# Altium footprint library Footprint-Lib-JVillodres.PcbLib: 38 footprints (part 1 of 3)
Each footprint in its own frame and in the unit in brackets; x right, y up, seen from the top. Pads: shape width x height; smd on the part's side, far side on the other; paste and mask are expansions set on the pad; w line width, h text height; cw(c..) or ccw(c..) is an arc to the next point about the centre after c.
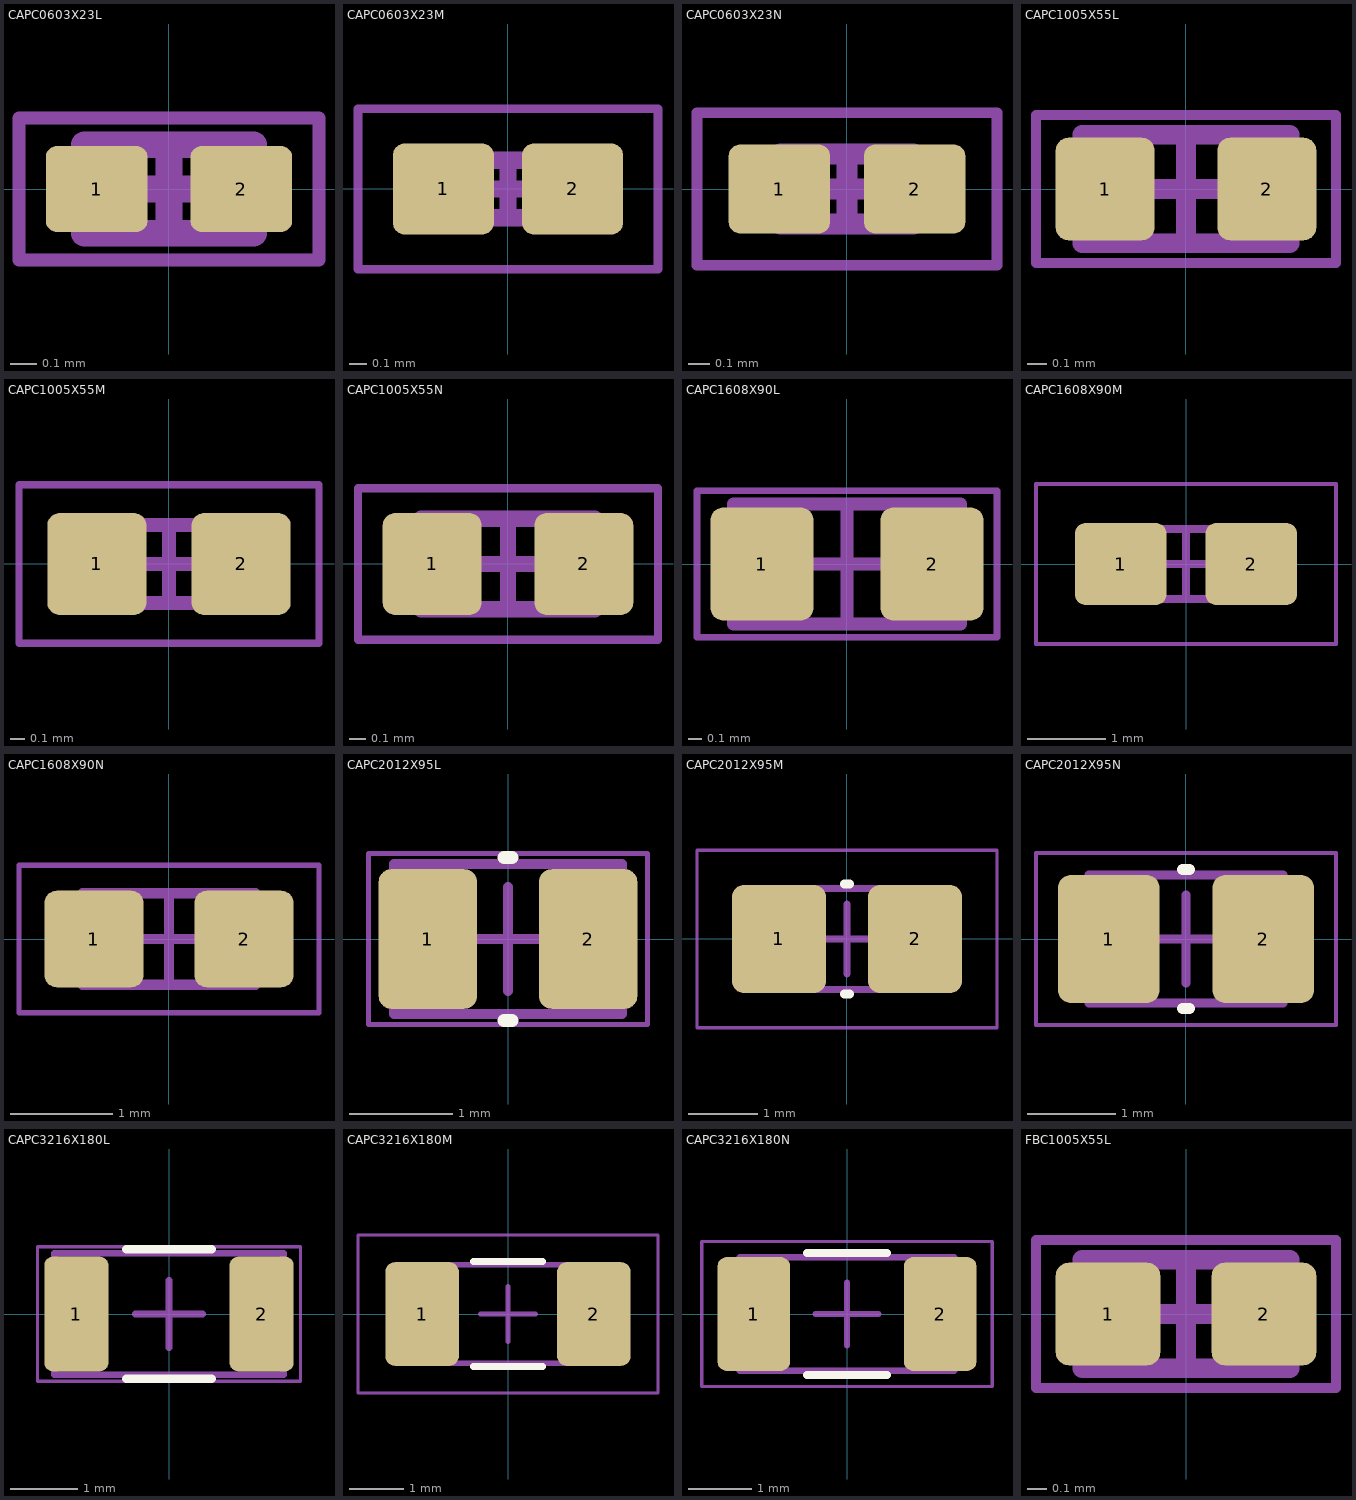
[diagram p0: the footprints below, top view; thin cyan lines are the x and y axes]

## CAPC0603X23L [mm] "Chip Capacitor, 2-Leads, Body 0,60x0,30mm, IPC High Density"
height 0.23
pads (2):
  rrect25% 0.38x0.32 smd: 1(-0.27,0) 2(0.27,0)
Top Assembly:
  lines w0.1: -0.315,-0.165 -0.315,0.165 0.315,0.165 0.315,-0.165 -0.315,-0.165
Top Designator:
  text ".Designator" at 0,0.188 h1
Top Courtyard:
  lines w0.05: -0.56,-0.265 -0.56,0.265 0.56,0.265 0.56,-0.265 -0.56,-0.265
Top Component Center:
  lines w0.1: -0.165,0 0.165,0 ; 0,-0.165 0,0.165
3D body "CAPC0603X23L.step": height 0.23, standoff 0, extent -0.3,-0.15 0.3,0.15

## CAPC0603X23M [mm] "Chip Capacitor, 2-Leads, Body 0,60x0,30mm, IPC Low Density"
height 0.23
pads (2):
  rrect25% 0.58x0.52 smd: 1(-0.37,0) 2(0.37,0)
Top Assembly:
  lines w0.1: -0.315,-0.165 0.315,-0.165 0.315,0.165 -0.315,0.165 -0.315,-0.165
Top Designator:
  text ".Designator" at 0,0.188 h1
Top Courtyard:
  lines w0.05: -0.86,-0.46 0.86,-0.46 0.86,0.46 -0.86,0.46 -0.86,-0.46
Top Component Center:
  lines w0.1: -0.165,0 0.165,0 ; 0,-0.165 0,0.165
3D body "CAPC0603X23M.step": height 0.23, standoff 0, extent -0.3,-0.15 0.3,0.15

## CAPC0603X23N [mm] "Chip Capacitor, 2-Leads, Body 0,60x0,30mm, IPC Medium Density"
height 0.23
pads (2):
  rrect25% 0.48x0.42 smd: 1(-0.32,0) 2(0.32,0)
Top Assembly:
  lines w0.1: -0.315,-0.165 -0.315,0.165 0.315,0.165 0.315,-0.165 -0.315,-0.165
Top Designator:
  text ".Designator" at 0,0.188 h1
Top Courtyard:
  lines w0.05: -0.71,-0.36 -0.71,0.36 0.71,0.36 0.71,-0.36 -0.71,-0.36
Top Component Center:
  lines w0.1: -0.165,0 0.165,0 ; 0,-0.165 0,0.165
3D body "CAPC0603X23N.step": height 0.23, standoff 0, extent -0.3,-0.15 0.3,0.15

## CAPC1005X55L [mm] "Chip Capacitor, 2-Leads, Body 1,00x0,50mm, IPC High Density"
height 0.55
pads (2):
  rrect25% 0.5x0.52 smd: 1(-0.41,0) 2(0.41,0)
Top Assembly:
  lines w0.1: -0.525,-0.275 0.525,-0.275 0.525,0.275 -0.525,0.275 -0.525,-0.275
Top Designator:
  text ".Designator" at 0,0.188 h1
Top Courtyard:
  lines w0.05: -0.76,-0.375 0.76,-0.375 0.76,0.375 -0.76,0.375 -0.76,-0.375
Top Component Center:
  lines w0.1: -0.275,0 0.275,0 ; 0,-0.275 0,0.275
3D body "CAPC1005X55L.step": height 0.55, standoff 0, extent -0.5,-0.25 0.5,0.25

## CAPC1005X55M [mm] "Chip Capacitor, 2-Leads, Body 1,00x0,50mm, IPC Low Density"
height 0.55
pads (2):
  rrect25% 0.7x0.72 smd: 1(-0.51,0) 2(0.51,0)
Top Assembly:
  lines w0.1: -0.525,-0.275 0.525,-0.275 0.525,0.275 -0.525,0.275 -0.525,-0.275
Top Designator:
  text ".Designator" at 0,0.188 h1
Top Courtyard:
  lines w0.05: -1.06,-0.56 1.06,-0.56 1.06,0.56 -1.06,0.56 -1.06,-0.56
Top Component Center:
  lines w0.1: -0.275,0 0.275,0 ; 0,-0.275 0,0.275
3D body "CAPC1005X55M.step": height 0.55, standoff 0, extent -0.5,-0.25 0.5,0.25

## CAPC1005X55N [mm] "Chip Capacitor, 2-Leads, Body 1,00x0,50mm, IPC Medium Density"
height 0.55
pads (2):
  rrect25% 0.6x0.62 smd: 1(-0.46,0) 2(0.46,0)
Top Assembly:
  lines w0.1: -0.525,-0.275 0.525,-0.275 0.525,0.275 -0.525,0.275 -0.525,-0.275
Top Designator:
  text ".Designator" at 0,0.188 h1
Top Courtyard:
  lines w0.05: -0.91,-0.46 0.91,-0.46 0.91,0.46 -0.91,0.46 -0.91,-0.46
Top Component Center:
  lines w0.1: -0.275,0 0.275,0 ; 0,-0.275 0,0.275
3D body "CAPC1005X55N.step": height 0.55, standoff 0, extent -0.5,-0.25 0.5,0.25

## CAPC1608X90L [mm] "Chip Capacitor, 2-Leads, Body 1,60x0,80mm, IPC High Density"
height 0.9
pads (2):
  rrect25% 0.775x0.85 smd: 1(-0.637,0) 2(0.638,0)
Top Assembly:
  lines w0.1: -0.85,-0.45 -0.85,0.45 0.85,0.45 0.85,-0.45 -0.85,-0.45
Top Designator:
  text ".Designator" at 0,0.188 h1
Top Courtyard:
  lines w0.05: -1.125,-0.55 -1.125,0.55 1.125,0.55 1.125,-0.55 -1.125,-0.55
Top Component Center:
  lines w0.1: -0.45,0 0.45,0 ; 0,-0.45 0,0.45
3D body "CAPC1608X90L.step": height 0.9, standoff 0, extent -0.8,-0.4 0.8,0.4

## CAPC1608X90M [mm] "Chip Capacitor, 2-Leads, Body 1,60x0,80mm, IPC Low Density"
height 0.9
pads (2):
  rrect25% 1.175x1.05 smd: 1(-0.837,0) 2(0.838,0)
Top Assembly:
  lines w0.1: -0.85,-0.45 0.85,-0.45 0.85,0.45 -0.85,0.45 -0.85,-0.45
Top Designator:
  text ".Designator" at 0,0.188 h1
Top Courtyard:
  lines w0.05: -1.925,-1.025 1.925,-1.025 1.925,1.025 -1.925,1.025 -1.925,-1.025
Top Component Center:
  lines w0.1: -0.45,0 0.45,0 ; 0,-0.45 0,0.45
3D body "CAPC1608X90M.step": height 0.9, standoff 0, extent -0.8,-0.4 0.8,0.4

## CAPC1608X90N [mm] "Chip Capacitor, 2-Leads, Body 1,60x0,80mm, IPC Medium Density"
height 0.9
pads (2):
  rrect25% 0.975x0.95 smd: 1(-0.737,0) 2(0.738,0)
Top Assembly:
  lines w0.1: -0.85,-0.45 0.85,-0.45 0.85,0.45 -0.85,0.45 -0.85,-0.45
Top Designator:
  text ".Designator" at 0,0.188 h1
Top Courtyard:
  lines w0.05: -1.475,-0.725 1.475,-0.725 1.475,0.725 -1.475,0.725 -1.475,-0.725
Top Component Center:
  lines w0.1: -0.45,0 0.45,0 ; 0,-0.45 0,0.45
3D body "CAPC1608X90N.step": height 0.9, standoff 0, extent -0.8,-0.4 0.8,0.4

## CAPC2012X95L [mm] "Chip Capacitor, 2-Leads, Body 2,00x1,25mm, IPC High Density"
height 0.95
pads (2):
  rrect25% 0.95x1.35 smd: 1(-0.775,0) 2(0.775,0)
Top Overlay:
  lines w0.127: -0.036,-0.788 0.036,-0.788 ; -0.036,0.788 0.036,0.788
Top Assembly:
  lines w0.1: -1.1,-0.725 1.1,-0.725 1.1,0.725 -1.1,0.725 -1.1,-0.725
Top Designator:
  text ".Designator" at 0,0.188 h1
Top Courtyard:
  lines w0.05: -1.35,-0.825 1.35,-0.825 1.35,0.825 -1.35,0.825 -1.35,-0.825
Top Component Center:
  lines w0.1: -0.5,0 0.5,0 ; 0,-0.5 0,0.5
3D body "CAPC2012X95L.step": height 0.95, standoff 0, extent -1,-0.625 1,0.625

## CAPC2012X95M [mm] "Chip Capacitor, 2-Leads, Body 2,00x1,25mm, IPC Low Density"
height 0.95
pads (2):
  rrect25% 1.35x1.55 smd: 1(-0.975,0) 2(0.975,0)
Top Overlay:
  lines w0.127: -0.036,-0.788 0.036,-0.788 ; -0.036,0.788 0.036,0.788
Top Assembly:
  lines w0.1: -1.1,-0.725 -1.1,0.725 1.1,0.725 1.1,-0.725 -1.1,-0.725
Top Designator:
  text ".Designator" at 0,0.188 h1
Top Courtyard:
  lines w0.05: -2.15,-1.275 -2.15,1.275 2.15,1.275 2.15,-1.275 -2.15,-1.275
Top Component Center:
  lines w0.1: -0.5,0 0.5,0 ; 0,-0.5 0,0.5
3D body "CAPC2012X95M.step": height 0.95, standoff 0, extent -1,-0.625 1,0.625

## CAPC2012X95N [mm] "Chip Capacitor, 2-Leads, Body 2,00x1,25mm, IPC Medium Density"
height 0.95
pads (2):
  rrect25% 1.15x1.45 smd: 1(-0.875,0) 2(0.875,0)
Top Overlay:
  lines w0.127: -0.036,-0.788 0.036,-0.788 ; -0.036,0.788 0.036,0.788
Top Assembly:
  lines w0.1: -1.1,-0.725 -1.1,0.725 1.1,0.725 1.1,-0.725 -1.1,-0.725
Top Designator:
  text ".Designator" at 0,0.188 h1
Top Courtyard:
  lines w0.05: -1.7,-0.975 -1.7,0.975 1.7,0.975 1.7,-0.975 -1.7,-0.975
Top Component Center:
  lines w0.1: -0.5,0 0.5,0 ; 0,-0.5 0,0.5
3D body "CAPC2012X95N.step": height 0.95, standoff 0, extent -1,-0.625 1,0.625

## CAPC3216X180L [mm] "Chip Capacitor, 2-Leads, Body 3,20x1,60mm, IPC High Density"
height 1.8
pads (2):
  rrect25% 0.95x1.7 smd: 1(-1.375,0) 2(1.375,0)
Top Overlay:
  lines w0.127: -0.637,-0.963 0.636,-0.963 ; -0.637,0.964 0.636,0.964
Top Assembly:
  lines w0.1: -1.7,-0.9 -1.7,0.9 1.7,0.9 1.7,-0.9 -1.7,-0.9
Top Designator:
  text ".Designator" at 0,0.188 h1
Top Courtyard:
  lines w0.05: -1.95,-1 -1.95,1 1.95,1 1.95,-1 -1.95,-1
Top Component Center:
  lines w0.1: -0.5,0 0.5,0 ; 0,-0.5 0,0.5
3D body "CAPC3216X180L.step": height 1.8, standoff 0, extent -1.6,-0.8 1.6,0.8

## CAPC3216X180M [mm] "Chip Capacitor, 2-Leads, Body 3,20x1,60mm, IPC Low Density"
height 1.8
pads (2):
  rrect25% 1.35x1.9 smd: 1(-1.575,0) 2(1.575,0)
Top Overlay:
  lines w0.127: -0.637,-0.963 0.636,-0.963 ; -0.637,0.964 0.636,0.964
Top Assembly:
  lines w0.1: -1.7,-0.9 1.7,-0.9 1.7,0.9 -1.7,0.9 -1.7,-0.9
Top Designator:
  text ".Designator" at 0,0.188 h1
Top Courtyard:
  lines w0.05: -2.75,-1.45 2.75,-1.45 2.75,1.45 -2.75,1.45 -2.75,-1.45
Top Component Center:
  lines w0.1: -0.5,0 0.5,0 ; 0,-0.5 0,0.5
3D body "CAPC3216X180M.step": height 1.8, standoff 0, extent -1.6,-0.8 1.6,0.8

## CAPC3216X180N [mm] "Chip Capacitor, 2-Leads, Body 3,20x1,60mm, IPC Medium Density"
height 1.8
pads (2):
  rrect25% 1.15x1.8 smd: 1(-1.475,0) 2(1.475,0)
Top Overlay:
  lines w0.127: -0.637,-0.963 0.636,-0.963 ; -0.637,0.964 0.636,0.964
Top Assembly:
  lines w0.1: -1.7,-0.9 1.7,-0.9 1.7,0.9 -1.7,0.9 -1.7,-0.9
Top Designator:
  text ".Designator" at 0,0.188 h1
Top Courtyard:
  lines w0.05: -2.3,-1.15 2.3,-1.15 2.3,1.15 -2.3,1.15 -2.3,-1.15
Top Component Center:
  lines w0.1: -0.5,0 0.5,0 ; 0,-0.5 0,0.5
3D body "CAPC3216X180N.step": height 1.8, standoff 0, extent -1.6,-0.8 1.6,0.8

## FBC1005X55L [mm] "Chip Ferrite Bead, 2-Leads, Body 1,00x0,50mm, IPC High Density"
height 0.55
pads (2):
  rrect25% 0.53x0.52 smd: 1(-0.395,0) 2(0.395,0)
Top Assembly:
  lines w0.1: -0.525,-0.275 0.525,-0.275 0.525,0.275 -0.525,0.275 -0.525,-0.275
Top Designator:
  text ".Designator" at 0,0.188 h1
Top Courtyard:
  lines w0.05: -0.76,-0.375 0.76,-0.375 0.76,0.375 -0.76,0.375 -0.76,-0.375
Top Component Center:
  lines w0.1: -0.275,0 0.275,0 ; 0,-0.275 0,0.275
3D body "FBC1005X55L.step": height 0.55, standoff 0, extent -0.5,-0.25 0.5,0.25